# EAGLE library part ATMEGA328P-PU (library ATMEGA328P-PU)
ATmega Series 20 MHz 32 KB Flash 2 KB SRAM 8-Bit Microcontroller - DIP-28 Check prices <https://pricing.snapeda.com/parts/ATMEGA328P-PU/Microchip/view-part?ref=eda>
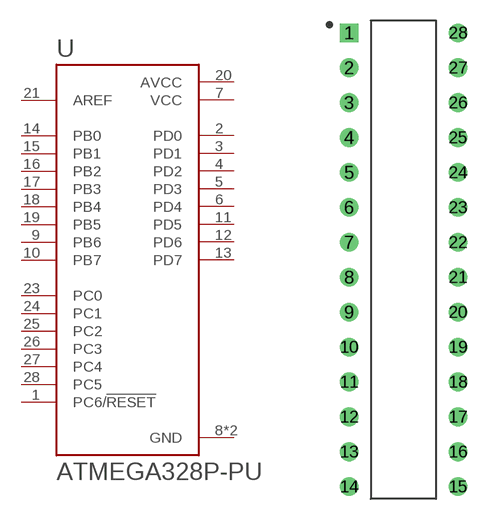
[diagram p0: symbol with the pads of DIP794W46P254L2967H457Q28B; footprint DIP794W46P254L2967H457Q28B]

Designator prefix U

## ATMEGA328P-PU (Availability: In Stock; Description: AVR AVR® ATmega Microcontroller IC 8-Bit 20MHz 32KB (16K x 16) FLASH 28-PDIP; MF: Microchip; MP: ATMEGA328P-PU; Package: PDIP-28 Microchip; Price: None; Purchase-URL: https://pricing.snapeda.com/search/part/ATMEGA328P-PU/?ref=eda)  [DIP794W46P254L2967H457Q28B]
1  PC6/!RESET
2  PD0
3  PD1
4  PD2
5  PD3
6  PD4
7  VCC  pwr
8  GND  pwr
9  PB6
10  PB7
11  PD5
12  PD6
13  PD7
14  PB0
15  PB1
16  PB2
17  PB3
18  PB4
19  PB5
20  AVCC  pwr
21  AREF  in
22  GND  pwr
23  PC0
24  PC1
25  PC2
26  PC3
27  PC4
28  PC5

## Footprint DIP794W46P254L2967H457Q28B (pad centres in mm)
drill 0.85 square: 1 -3.96,16.51
drill 0.85: 2 -3.96,13.97; 3 -3.96,11.43; 4 -3.96,8.89; 5 -3.96,6.35; 6 -3.96,3.81; 7 -3.96,1.27; 8 -3.96,-1.27; 9 -3.96,-3.81; 10 -3.96,-6.35; 11 -3.96,-8.89; 12 -3.96,-11.43; 13 -3.96,-13.97; 14 -3.96,-16.51; 15 3.96,-16.51; 16 3.96,-13.97; 17 3.96,-11.43; 18 3.96,-8.89; 19 3.96,-6.35; 20 3.96,-3.81; 21 3.96,-1.27; 22 3.96,1.27; 23 3.96,3.81; 24 3.96,6.35; 25 3.96,8.89; 26 3.96,11.43; 27 3.96,13.97; 28 3.96,16.51